# EAGLE library part BT-MODULE (library btm-11x)
Serial Bluetooth module employs Bluecore4-External chip from CSR ,supports Bluetooth v2.0,industrial standard and super light dimension. Bluetooth Spec v2.0+EDR Compliant Class 2 type Output Power Full speed Bluetooth operation with full piconet support Scatternet support Onboard antenna 3.3V operation UART interface Support for 8Mbit external onboard Flash Minimized size 26.9mm(L) x 13mm(W) x 2.2mm
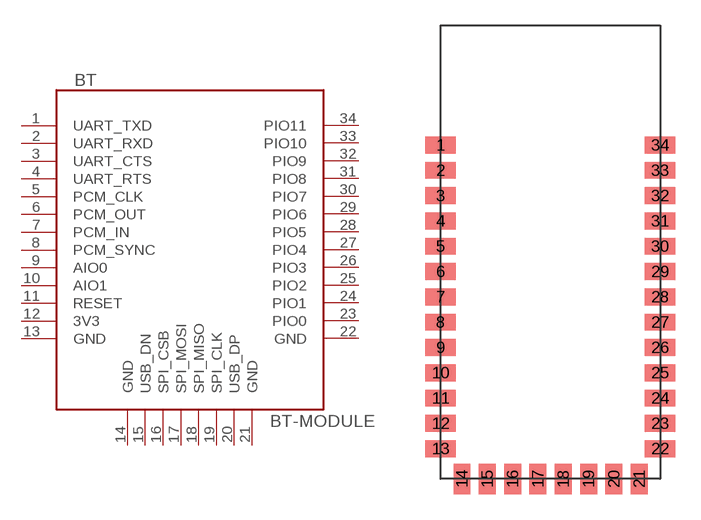
[diagram p2: symbol with the pads of EPBM-COM; footprint EPBM-COM]

Designator prefix BT

## BT-MODULE  [EPBM-COM]
1  UART_TXD
2  UART_RXD
3  UART_CTS
4  UART_RTS
5  PCM_CLK
6  PCM_OUT
7  PCM_IN
8  PCM_SYNC
9  AIO0
10  AIO1
11  RESET
12  3V3  pwr
13  GND  pwr
14  GND  pwr
15  USB_DN
16  SPI_CSB
17  SPI_MOSI
18  SPI_MISO
19  SPI_CLK
20  USB_DP
21  GND  pwr
22  GND  pwr
23  PIO0
24  PIO1
25  PIO2
26  PIO3
27  PIO4
28  PIO5
29  PIO6
30  PIO7
31  PIO8
32  PIO9
33  PIO10
34  PIO11

## Footprint EPBM-COM (pad centres in mm)
smd 1.8 x 1: 1 -6.5,6.35; 2 -6.5,4.85; 3 -6.5,3.35; 4 -6.5,1.85; 5 -6.5,0.35; 6 -6.5,-1.15; 7 -6.5,-2.65; 8 -6.5,-4.15; 9 -6.5,-5.65; 10 -6.5,-7.15; 11 -6.5,-8.65; 12 -6.5,-10.15; 13 -6.5,-11.65; 22 6.5,-11.65; 23 6.5,-10.15; 24 6.5,-8.65; 25 6.5,-7.15; 26 6.5,-5.65; 27 6.5,-4.15; 28 6.5,-2.65; 29 6.5,-1.15; 30 6.5,0.35; 31 6.5,1.85; 32 6.5,3.35; 33 6.5,4.85; 34 6.5,6.35
smd 1 x 1.8: 14 -5.23,-13.45; 15 -3.73,-13.45; 16 -2.23,-13.45; 17 -0.73,-13.45; 18 0.77,-13.45; 19 2.27,-13.45; 20 3.77,-13.45; 21 5.27,-13.45